# EAGLE library part K-HEADER-FEMALE-1X10- (library elpp-tht-v1.4)
FEMALE HEADER
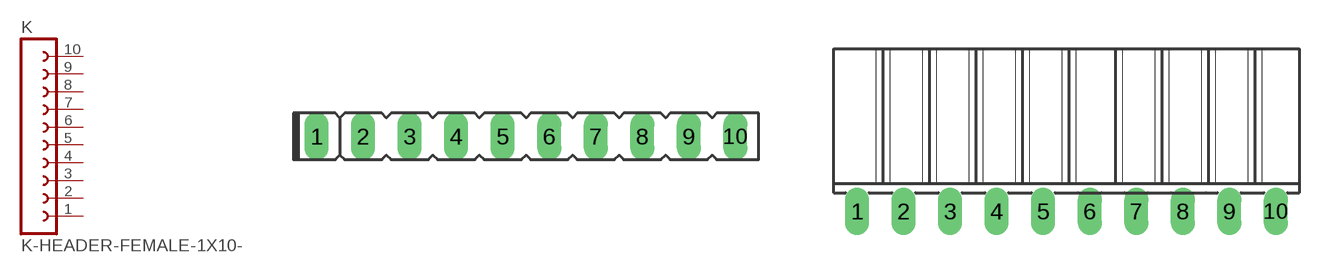
[diagram p22: symbol with the pads of ELPP-SIL-F-10-WAY; footprints ELPP-SIL-F-10-WAY, ELPP-SIL-F-10-WAY-90DEG]

Designator prefix K

## K-HEADER-FEMALE-1X10-V (FARNELL: 9728856; RS: unknown)  [ELPP-SIL-F-10-WAY]
1  1  pas
2  2  pas
3  3  pas
4  4  pas
5  5  pas
6  6  pas
7  7  pas
8  8  pas
9  9  pas
10  10  pas

## K-HEADER-FEMALE-1X10-H (FARNELL: 9728880; RS: unknown)  [ELPP-SIL-F-10-WAY-90DEG]
Pads as for ELPP-SIL-F-10-WAY

## Footprint ELPP-SIL-F-10-WAY (pad centres in mm)
FEMALE HEADER, 1 row
drill 0.8 long: 1 -11.43,0; 2 -8.89,0; 3 -6.35,0; 4 -3.81,0; 5 -1.27,0; 6 1.27,0; 7 3.81,0; 8 6.35,0; 9 8.89,0; 10 11.43,0

## Footprint ELPP-SIL-F-10-WAY-90DEG (pad centres in mm)
FEMALE HEADER, 1 row, 90 degrees
drill 0.8 long: 1 -11.43,0; 2 -8.89,0; 3 -6.35,0; 4 -3.81,0; 5 -1.27,0; 6 1.27,0; 7 3.81,0; 8 6.35,0; 9 8.89,0; 10 11.43,0